# Altium schematic symbol library Memory.SchLib: 2 symbols
Pins are listed as number, name and electrical type; pins without a type are passive.

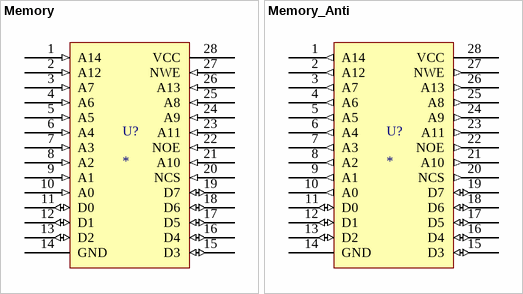
[diagram p0: symbols Memory to Memory_Anti]

## Memory
designator U?
footprint DIP28-600 (37.3*15.3*4长宽高）)
pins: 1 A14 (in), 2 A12 (in), 3 A7 (in), 4 A6 (in), 5 A5 (in), 6 A4 (in), 7 A3 (in), 8 A2 (in), 9 A1 (in), 10 A0 (in), 11 D0 (io), 12 D1 (io), 13 D2 (io), 14 GND (power), 15 D3 (io), 16 D4 (io), 17 D5 (io), 18 D6 (io), 19 D7 (io), 20 NCS (in), 21 A10 (in), 22 NOE (in), 23 A11 (in), 24 A9 (in), 25 A8 (in), 26 A13 (in), 27 NWE (in), 28 VCC (power)

## Memory_Anti
designator U?
footprint DIP28-600-Anti (37.3*15.3*4长宽高）)
pins: 1 A14 (out), 2 A12 (out), 3 A7 (out), 4 A6 (out), 5 A5 (out), 6 A4 (out), 7 A3 (out), 8 A2 (out), 9 A1 (out), 10 A0 (out), 11 D0 (io), 12 D1 (io), 13 D2 (io), 14 GND (power), 15 D3 (io), 16 D4 (io), 17 D5 (io), 18 D6 (io), 19 D7 (io), 20 NCS (out), 21 A10 (out), 22 NOE (out), 23 A11 (out), 24 A9 (out), 25 A8 (out), 26 A13 (out), 27 NWE (out), 28 VCC (power)